# EAGLE library part MOSFET-N4D (library ads4)
N-Channel MOSFET with 4 Drain Terminals
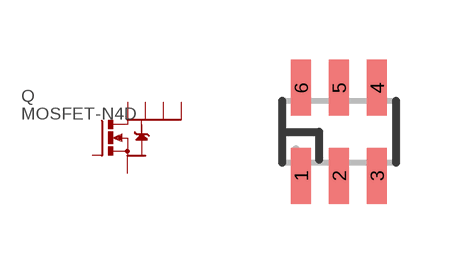
[diagram p100: symbol with the pads of SOT23-6; footprint SOT23-6]

Designator prefix Q

## MOSFET-N4DSOT23-6  [SOT23-6]
1  D1  pas
2  D2  pas
3  G  pas
4  S1  pas
5  D3  pas
6  D4  pas

## Footprint SOT23-6 (pad centres in mm)
SOT23-6 package This is the DBV6 package from Texas Instruments. It differs from the one in the Eagle libraries (there are two versions in ref-packages.lbr) in that the pad dimensions are 0.5mm x 1.4mm, as in the TI recommendation. The pin spacing is 0.95mm, and the package body has nominal dimensions 2.9mm long by 1.6mm wide.
smd 0.5 x 1.4: 1 -0.95,-1.1; 2 0,-1.1; 3 0.95,-1.1; 4 0.95,1.1; 5 0,1.1; 6 -0.95,1.1